# Altium schematic symbol library P3T2175DP_TSSOP8.SchLib: 1 symbol
Pins are listed as number, name and electrical type; pins without a type are passive.

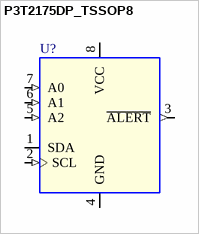
[diagram p0: symbol P3T2175DP_TSSOP8]

## P3T2175DP_TSSOP8
designator U?
IC DIG TEMP SENSOR I3C/I2C 1.4-3.6V TSSOP8
pins: 1 SDA (io), 2 SCL (in), 3 ~{ALERT} (out), 4 GND (power), 5 A2 (in), 6 A1 (in), 7 A0 (in), 8 VCC (power)